# Altium schematic symbol library REG104FA-3P3&slash_500.SchLib: 2 symbols
Pins are listed as number, name and electrical type; pins without a type are passive.

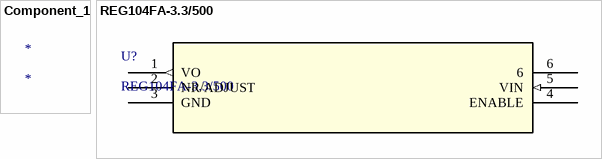
[diagram p0: symbols Component_1 to REG104FA-3.3/500]

## Component_1
designator *

## REG104FA-3.3/500
designator U?
No Description Available; Mfr_Name: Texas Instruments; Copyright: Copyright (C) 2022 Ultra Librarian. All rights reserved.; Manufacturer_Part_Number: REG104FA-3.3/500; Digi-Key_Part_Number_1: 2156-REG104FA-3.3/500-ND; Digi-Key_Part_Number_2: 2156-REG104FA-3.3/500-TI-ND; Digi-Key_Part_Number_3: 296-REG104FA-3.3/500CT-ND; Digi-Key_Part_Number_4: 296-REG104FA-3.3/500DKR-ND; Digi-Key_Part_Number_5: 296-REG104FA-3.3/500TR-ND; Digi-Key_Part_Number_6: REG104FA-3.3CT-ND; Digi-Key_Part_Number_7: REG104FA-3.3DKR-ND; Digi-Key_Part_Number_8: REG104FA-3.3TR-ND; RefDes: RefDes; Type: DEV
footprint KTT5_TEX
pins: 1 VO (out), 2 NR/ADJUST, 3 GND (power), 4 ENABLE, 5 VIN (in), 6